# EAGLE library part ADS830 (library eOscope)
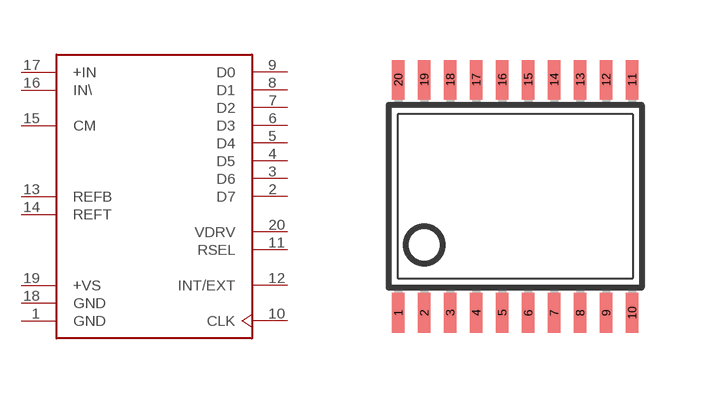
[diagram p3: symbol with the pads of SSOP20; footprint SSOP20]

Designator prefix -

## ADS830  [SSOP20]
1  GND  pwr
2  D7  out
3  D6  out
4  D5  out
5  D4  out
6  D3  out
7  D2  out
8  D1  out
9  D0  out
10  CLK  in
11  RSEL  in
12  INT/EXT  in
13  REFB  out
14  REFT  out
15  CM  out
16  IN\  in
17  +IN  in
18  GND  pwr
19  +VS  pwr
20  VDRV  pwr

## Footprint SSOP20 (pad centres in mm)
Shrink Small Outline Package package type SS
smd 0.305 x 0.991: 1 -2.925,-2.918; 2 -2.275,-2.918; 3 -1.625,-2.918; 4 -0.975,-2.918; 5 -0.325,-2.918; 6 0.325,-2.918; 7 0.975,-2.918; 8 1.625,-2.918; 9 2.275,-2.918; 10 2.925,-2.918; 11 2.925,2.918; 12 2.275,2.918; 13 1.625,2.918; 14 0.975,2.918; 15 0.325,2.918; 16 -0.325,2.918; 17 -0.975,2.918; 18 -1.625,2.918; 19 -2.275,2.918; 20 -2.925,2.918